# Altium footprint library DI_LED3mm_straight.PcbLib: 1 footprints
Each footprint in its own frame and in the unit in brackets; x right, y up, seen from the top. Pads: shape width x height; smd on the part's side, far side on the other; paste and mask are expansions set on the pad; w line width, h text height; cw(c..) or ccw(c..) is an arc to the next point about the centre after c.
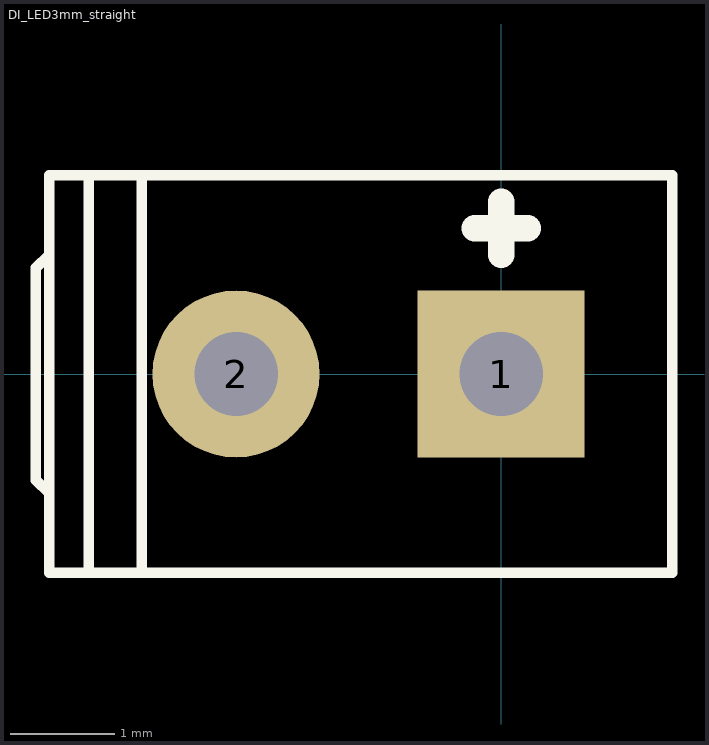
[diagram p0: the footprint, top view; thin cyan lines are the x and y axes]

## DI_LED3mm_straight [mm]
pads (2):
  rect 1.6x1.6 hole 0.8: 1(0,0)
  round 1.6 hole 0.8: 2(-2.54,0)
Top Overlay:
  lines w0.102: -4.331,-1.143 -4.458,-1.016 -4.458,1.016 -4.331,1.143 ; -3.95,-1.905 -3.95,1.905 ; -3.442,-1.905 -3.442,1.905 ; 1.638,-1.905 1.638,1.905 ; 1.638,-1.905 -4.331,-1.905 -4.331,1.905 1.638,1.905 ; 1.638,-1.905 1.638,1.905
  lines w0.254: -0.254,1.397 0.254,1.397 ; 0,1.143 0,1.651
3D body: height 8.2, standoff 7.2, extent 0.658,-1.803 1.7,1.8
3D body: height 8.2, standoff 0, extent -3.279,-1.803 0.66,1.8
3D body: height 1, standoff 0, extent 0.658,-1.803 1.7,1.8
3D body: height 7.2, standoff 1, extent -4.319,-1.803 -3.277,1.8
3D body: height 10, standoff 8.2, extent -2.798,-1.499 0.191,1.495
3D body: height 11.5, standoff 8.5, extent -2.794,-1.495 0.191,1.492